# Altium footprint library Diode.PcbLib: 15 footprints
Each footprint in its own frame and in the unit in brackets; x right, y up, seen from the top. Pads: shape width x height; smd on the part's side, far side on the other; paste and mask are expansions set on the pad; w line width, h text height; cw(c..) or ccw(c..) is an arc to the next point about the centre after c.
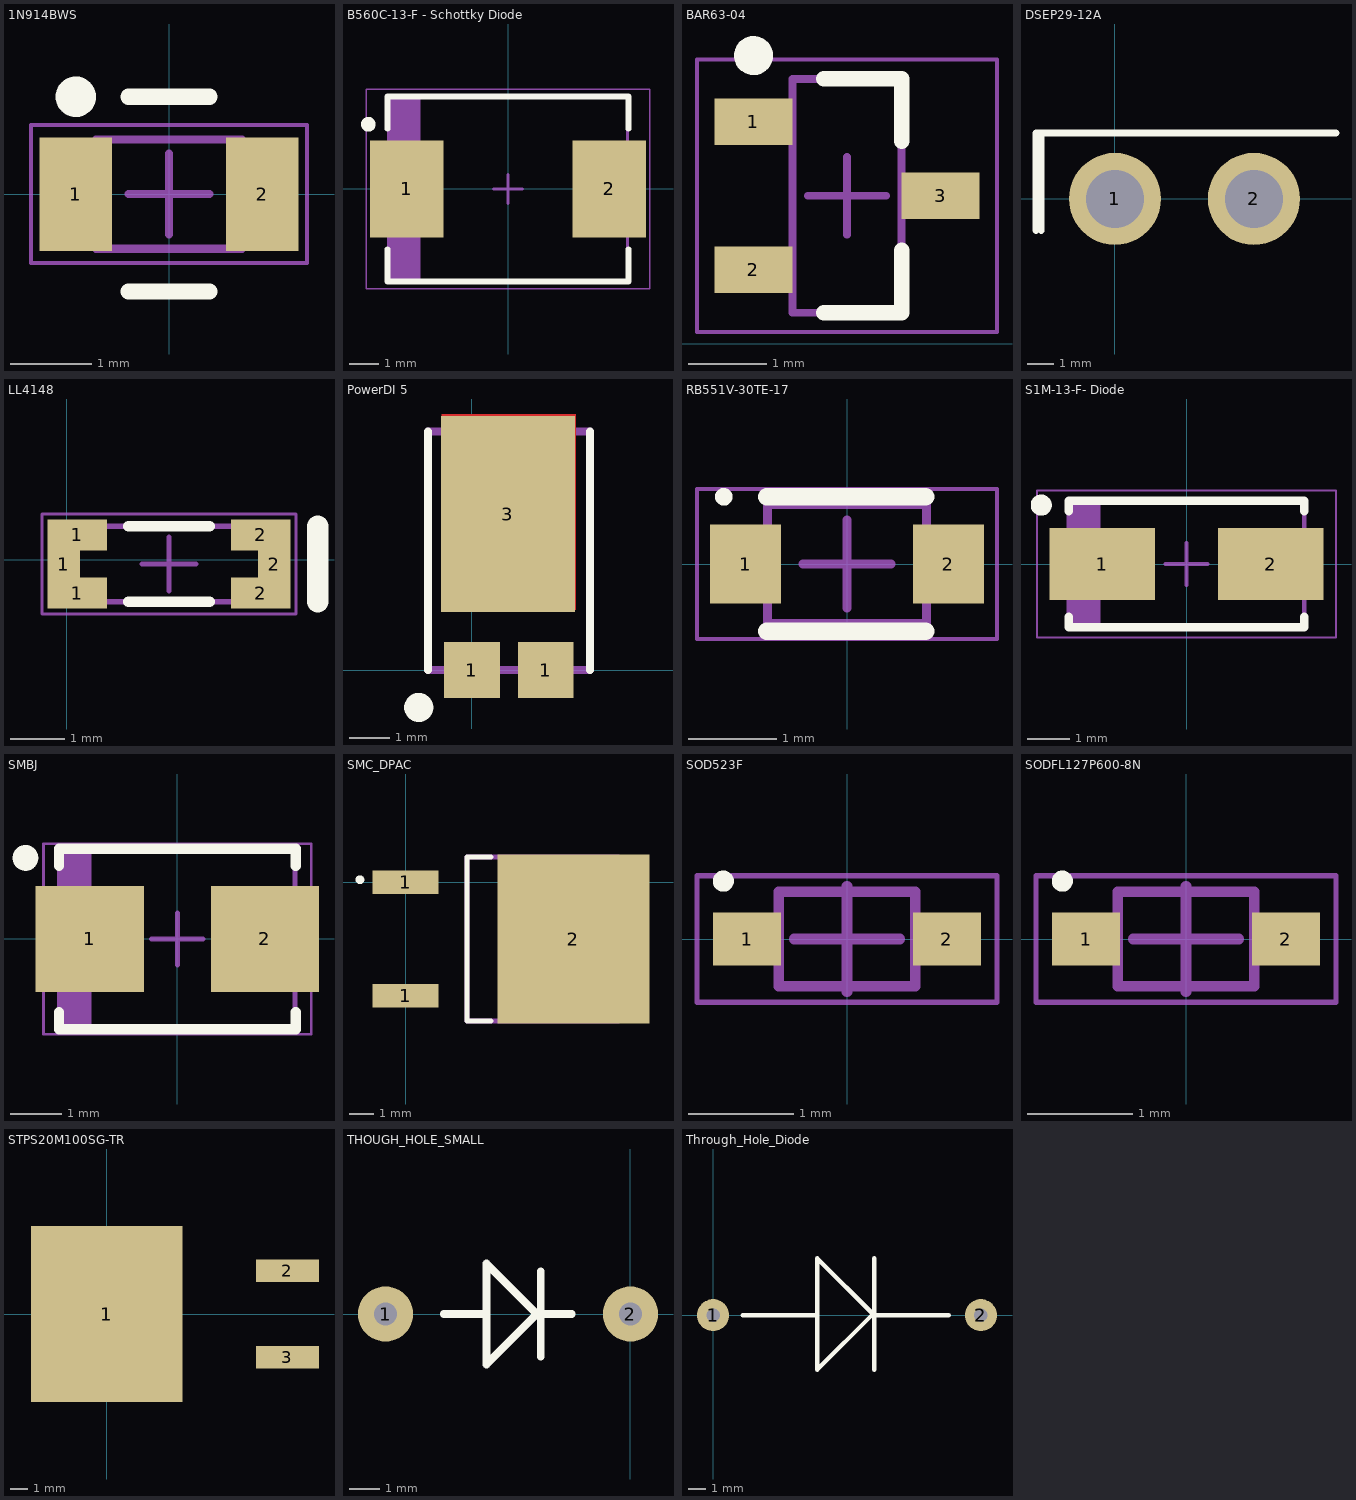
[diagram p0: the footprints below, top view; thin cyan lines are the x and y axes]

## 1N914BWS [mm] "Signal Diode"
height 1
pads (2):
  rect 0.9x1.4 smd: 1(-1.15,0) 2(1.15,0)
Top Overlay:
  circle w0.25: c-1.15,1.2 r0.125
  lines w0.2: -0.5,-1.2 0.5,-1.2 ; -0.5,1.2 0.5,1.2
Mechanical 13:
  lines w0.1: -0.9,-0.675 0.9,-0.675 0.9,0.675 -0.9,0.675 -0.9,-0.675
Mechanical 15:
  lines w0.05: -1.7,-0.85 1.7,-0.85 1.7,0.85 -1.7,0.85 -1.7,-0.85
  lines w0.1: -0.5,0 0.5,0 ; 0,-0.5 0,0.5
3D body "RB551V-30TE-17.step": height 0.9, standoff 0, extent -1.25,-0.675 1.25,0.675

## B560C-13-F - Schottky Diode [mm] "60 V, 5 A, Single, SMD, 2 Pins, 700 mV"
height 2.5
pads (2):
  rect 2.5x3.3 smd: 1(-3.45,0) 2(3.45,0)
Top Overlay:
  circle w0.25: c-4.75,2.2 r0.125
  lines w0.2: -4.1,-2.05 -4.1,-3.15 4.1,-3.15 4.1,-2.05 ; -4.1,2.05 -4.1,3.15 4.1,3.15 4.1,2.05
Mechanical 13:
  rectangle: -4.065,-3.11 -2.972,3.11
  lines w0.1: -4.065,-3.11 4.065,-3.11 4.065,3.11 -4.065,3.11 -4.065,-3.11
Mechanical 15:
  lines w0.05: -4.825,-3.4 4.825,-3.4 4.825,3.4 -4.825,3.4 -4.825,-3.4
  lines w0.1: -0.5,0 0.5,0 ; 0,-0.5 0,0.5
3D body "B560C-13-F - Schottky Diode.step": height 2.5, standoff 0, extent -4.285,-3.11 4.285,3.11

## BAR63-04 [mm] "PIN Diode"
height 1.1
pads (3):
  rect 1x0.6 smd: 1(-3.6,2.85) 2(-3.6,0.95) 3(-1.2,1.9)
Top Overlay:
  circle w0.25: c-3.6,3.7 r0.125
  lines w0.2: -2.7,0.4 -1.7,0.4 -1.7,1.2 ; -2.7,3.4 -1.7,3.4 -1.7,2.6
Mechanical 13:
  lines w0.1: -3.1,0.4 -3.1,3.4 -1.7,3.4 -1.7,0.4 -3.1,0.4
Mechanical 15:
  lines w0.05: -4.325,0.15 -4.325,3.65 -0.475,3.65 -0.475,0.15 -4.325,0.15
  lines w0.1: -2.9,1.9 -1.9,1.9 ; -2.4,1.4 -2.4,2.4
3D body: height 1.1, standoff 0.05, extent -3.1,0.4 -1.7,3.4

## DSEP29-12A [mm] "Fast / Ultrafast Diode, 1.2 kV, 30 A"
height 15.5
pads (2):
  round 3.5 hole 2.2: 1(0,0) 2(5.28,0)
Top Overlay:
  lines w0.254: -3,-1.2 -3,2.5 8.4,2.5 ; -2.8,-1.2 -2.8,2.5
3D body "TO-220 2pins short V1.step": height 19.11, standoff -3, extent -3.342,-1.85 8.542,2.55

## LL4148 [mm] "Diode"
pads (6):
  rect 0.6x1.65 smd: 1(-0.055,-0.081) 2(3.845,-0.081)
  rect 1.1x0.575 smd: 1(0.195,-0.619) 1(0.195,0.456) 2(3.595,-0.619) 2(3.595,0.456)
Top Overlay:
  lines w0.2: 1.145,-0.781 2.645,-0.781 ; 1.145,0.619 2.645,0.619
  lines w0.4: 4.645,-0.781 4.645,0.619
Mechanical 13:
  lines w0.1: 0.17,-0.781 3.62,-0.781 3.62,0.619 0.17,0.619 0.17,-0.781
Mechanical 15:
  lines w0.05: -0.455,-1.006 4.245,-1.006 4.245,0.844 -0.455,0.844 -0.455,-1.006
  lines w0.1: 1.395,-0.081 2.395,-0.081 ; 1.895,-0.581 1.895,0.419
3D body: height 2.1, standoff 0.7, extent 0.17,-0.784 3.62,0.616

## PowerDI 5 [mm] "PowerD15"
height 5
pads (3):
  rect 1.39x1.4 smd: 1(0,0) 1(1.84,0)
  rect 3.36x4.9 smd: 3(0.9,3.9)
Top Layer:
  rectangle: -0.76,1.5 2.6,6.4
Top Overlay:
  circle w0.4: c-1.331,-0.935 r0.164
  lines w0.2: -1.105,0.004 -1.105,5.966 ; 2.945,0.004 2.945,5.966
Mechanical 13:
  lines w0.2: -1.105,0.004 -1.105,5.966 2.945,5.966 2.945,0.004 -1.105,0.004
3D body "PowerDI5.stp": height 1.12, standoff 0.02, extent -1.035,-0.3 2.935,6.208

## RB551V-30TE-17 [mm] "2A, small signal diode"
height 0.9
pads (2):
  rect 0.8x0.9 smd: 1(-1.15,0) 2(1.15,0)
Top Overlay:
  circle w0.1: c-1.397,0.762 r0.05
  lines w0.2: -0.911,-0.762 0.889,-0.762 ; -0.911,0.762 0.889,0.762
Mechanical 13:
  lines w0.1: -0.9,-0.675 0.9,-0.675 0.9,0.675 -0.9,0.675 -0.9,-0.675
Mechanical 15:
  lines w0.05: -1.7,-0.85 1.7,-0.85 1.7,0.85 -1.7,0.85 -1.7,-0.85
  lines w0.1: -0.5,0 0.5,0 ; 0,-0.5 0,0.5
3D body "RB551V-30TE-17.step": height 0.9, standoff 0, extent -1.25,-0.675 1.25,0.675

## S1M-13-F- Diode [mm] "Standard Recovery Diode, 1 kV, 1 A, Single, 1.1 V, 1.8 µs, 30 A"
height 2.4
pads (2):
  rect 2.5x1.7 smd: 1(-2,0) 2(2,0)
Top Overlay:
  circle w0.25: c-3.45,1.4 r0.125
  lines w0.2: -2.8,-1.25 -2.8,-1.5 2.8,-1.5 2.8,-1.25 ; -2.8,1.25 -2.8,1.5 2.8,1.5 2.8,1.25
Mechanical 13:
  rectangle: -2.795,-1.46 -2.043,1.46
  lines w0.1: -2.795,-1.46 -2.795,1.46 2.795,1.46 2.795,-1.46 -2.795,-1.46
Mechanical 15:
  lines w0.05: -3.55,-1.75 -3.55,1.75 3.55,1.75 3.55,-1.75 -3.55,-1.75
  lines w0.1: -0.5,0 0.5,0 ; 0,-0.5 0,0.5
3D body "S1M-13-F- Diode.step": height 2.4, standoff 0, extent -3.015,-1.46 3.015,1.46

## SMBJ [mm] "Molded Diode, 2-Leads, Body 4.31x3.40mm, IPC High Density"
height 2.44
pads (2):
  rect 2.1x2.05 smd: 1(-1.7,0) 2(1.7,0)
Top Overlay:
  circle w0.25: c-2.95,1.575 r0.125
  lines w0.2: -2.3,-1.425 -2.3,-1.75 2.3,-1.75 2.3,-1.425 ; -2.3,1.425 -2.3,1.75 2.3,1.75 2.3,1.425
Mechanical 13:
  rectangle: -2.285,-1.745 -1.67,1.745
  lines w0.1: -2.285,-1.745 2.285,-1.745 2.285,1.745 -2.285,1.745 -2.285,-1.745
Mechanical 15:
  lines w0.05: -2.6,-1.85 2.6,-1.85 2.6,1.85 -2.6,1.85 -2.6,-1.85
  lines w0.1: -0.5,0 0.5,0 ; 0,-0.5 0,0.5
3D body "SMBJ.step": height 2.44, standoff 0, extent -2.505,-1.745 2.505,1.745

## SMC_DPAC [mm] "SMC_DPAC"
height 5
pads (3):
  rect 2.65x0.95 smd: 1(0,-4.572) 1(0,0)
  rect 6.1x6.8 smd: 2(6.75,-2.286)
Top Overlay:
  circle w0.2: c-1.834,0.1 r0.077
  lines w0.2: 2.953,1.014 2.463,1.014 ; 3.442,-5.586 2.463,-5.586 ; 3.442,1.014 2.463,1.014 ; 2.463,-5.586 2.463,1.014 ; 2.463,-5.586 2.463,1.014
Mechanical 13:
  lines w0.2: 2.463,-5.586 2.463,1.014 8.563,1.014 8.563,-5.586 2.463,-5.586

## SOD523F [mm] "Zenner diode"
height 0.7
pads (2):
  rect 0.65x0.5 smd: 1(-0.95,0) 2(0.95,0)
Top Overlay:
  circle w0.1: c-1.175,0.55 r0.05
Mechanical 13:
  lines w0.1: -0.65,-0.45 -0.65,0.45 0.65,0.45 0.65,-0.45 -0.65,-0.45
Mechanical 15:
  lines w0.05: -1.425,-0.6 -1.425,0.6 1.425,0.6 1.425,-0.6 -1.425,-0.6
  lines w0.1: -0.5,0 0.5,0 ; 0,-0.5 0,0.5
3D body: height 0.7, standoff 0, extent -0.65,-0.45 0.65,0.45

## SODFL127P600-8N [mm]
height 0.7
pads (2):
  rect 0.65x0.5 smd: 1(-0.95,0) 2(0.95,0)
Top Overlay:
  circle w0.1: c-1.175,0.55 r0.05
Mechanical 13:
  lines w0.1: -0.65,-0.45 0.65,-0.45 0.65,0.45 -0.65,0.45 -0.65,-0.45
Mechanical 15:
  lines w0.05: -1.425,-0.6 1.425,-0.6 1.425,0.6 -1.425,0.6 -1.425,-0.6
  lines w0.1: -0.5,0 0.5,0 ; 0,-0.5 0,0.5
3D body: height 0.7, standoff 0, extent -0.65,-0.45 0.65,0.45

## STPS20M100SG-TR [mm] "Small Signal Schottky Diode, Single, 100 V, 20 A"
pads (3):
  rect 8.9x10.3 smd: 1(0,0)
  rect 3.7x1.3 smd: 2(10.6,2.54) 3(10.6,-2.54)
3D body "SW3dPS-TO263-3S.step": height 4.88, standoff 0.08, extent -3.87,-5 11.8,5

## THOUGH_HOLE_SMALL [mm]
pads (2):
  round 1.8 hole 0.762: 1(-8,0) 2(0.014,0)
Top Overlay:
  lines w0.254: -6.096,0 -4.699,0 ; -2.921,-1.397 -2.921,1.397 ; -1.905,0 -3.048,0 ; -3.048,0 -4.699,-1.651 -4.699,1.651 -3.048,0

## Through_Hole_Diode [mm]
pads (2):
  round 1.8 hole 0.762: 1(0,0) 2(15,0)
Top Overlay:
  lines w0.254: 1.651,0 5.842,0 ; 8.954,0.064 5.842,-3.048 5.842,3.175 9.017,0 13.208,0 ; 9.017,-3.048 9.017,3.175